# EAGLE library part PIC16F15345 (library yapo)
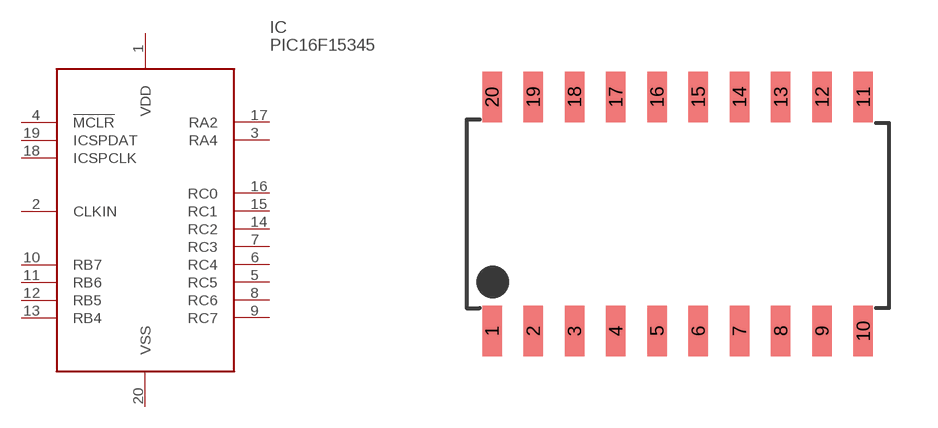
[diagram p73: symbol with the pads of SOIC-20N; footprint SOIC-20N]

Designator prefix IC

## PIC16F15345  [SOIC-20N]
1  VDD
2  CLKIN
3  RA4
4  !MCLR!
5  RC5
6  RC4
7  RC3
8  RC6
9  RC7
10  RB7
11  RB6
12  RB5
13  RB4
14  RC2
15  RC1
16  RC0
17  RA2
18  ICSPCLK
19  ICSPDAT
20  VSS

## Footprint SOIC-20N (pad centres in mm)
smd 0.6 x 1.55: 1 -5.715,-3.6; 2 -4.445,-3.6; 3 -3.175,-3.6; 4 -1.905,-3.6; 5 -0.635,-3.6; 6 0.635,-3.6; 7 1.905,-3.6; 8 3.175,-3.6; 9 4.445,-3.6; 10 5.715,-3.6; 11 5.715,3.6; 12 4.445,3.6; 13 3.175,3.6; 14 1.905,3.6; 15 0.635,3.6; 16 -0.635,3.6; 17 -1.905,3.6; 18 -3.175,3.6; 19 -4.445,3.6; 20 -5.715,3.6